# EAGLE library part M34518(32PIN) (library renesas_mcu)
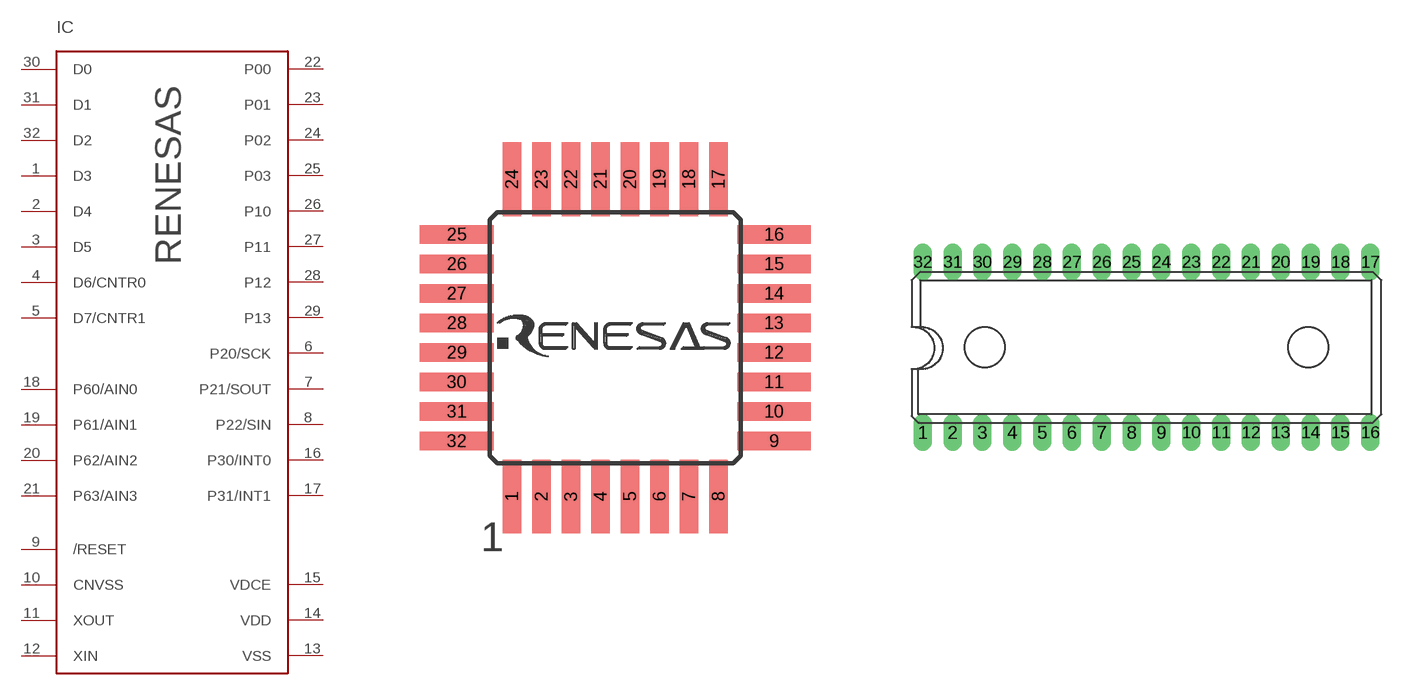
[diagram p50: symbol with the pads of 32P6U-A; footprints 32P6U-A, 32P4B]

Designator prefix IC

## M34518(32PIN)FP  [32P6U-A]
1  D3
2  D4
3  D5
4  D6/CNTR0
5  D7/CNTR1
6  P20/SCK
7  P21/SOUT
8  P22/SIN
9  /RESET
10  CNVSS
11  XOUT
12  XIN
13  VSS
14  VDD
15  VDCE
16  P30/INT0
17  P31/INT1
18  P60/AIN0
19  P61/AIN1
20  P62/AIN2
21  P63/AIN3
22  P00
23  P01
24  P02
25  P03
26  P10
27  P11
28  P12
29  P13
30  D0
31  D1
32  D2

## M34518(32PIN)SP  [32P4B]
1  D0
2  D1
3  D2
4  D3
5  D4
6  D5
7  D6/CNTR0
8  D7/CNTR1
9  P20/SCK
10  P21/SOUT
11  P22/SIN
12  /RESET
13  CNVSS
14  XOUT
15  XIN
16  VSS
17  VDD
18  VDCE
19  P30/INT0
20  P31/INT1
21  P60/AIN0
22  P61/AIN1
23  P62/AIN2
24  P63/AIN3
25  P00
26  P01
27  P02
28  P03
29  P10
30  P11
31  P12
32  P13

## Footprint 32P6U-A (pad centres in mm)
smd 0.5 x 2: 1 -2.8,-4.3; 2 -2,-4.3; 3 -1.2,-4.3; 4 -0.4,-4.3; 5 0.4,-4.3; 6 1.2,-4.3; 7 2,-4.3; 8 2.8,-4.3; 17 2.8,4.3; 18 2,4.3; 19 1.2,4.3; 20 0.4,4.3; 21 -0.4,4.3; 22 -1.2,4.3; 23 -2,4.3; 24 -2.8,4.3
smd 2 x 0.5: 9 4.3,-2.8; 10 4.3,-2; 11 4.3,-1.2; 12 4.3,-0.4; 13 4.3,0.4; 14 4.3,1.2; 15 4.3,2; 16 4.3,2.8; 25 -4.3,2.8; 26 -4.3,2; 27 -4.3,1.2; 28 -4.3,0.4; 29 -4.3,-0.4; 30 -4.3,-1.2; 31 -4.3,-2; 32 -4.3,-2.8

## Footprint 32P4B (pad centres in mm)
drill 0.61 long: 1 -13.335,-5.08; 2 -11.557,-5.08; 3 -9.779,-5.08; 4 -8.001,-5.08; 5 -6.223,-5.08; 6 -4.445,-5.08; 7 -2.667,-5.08; 8 -0.889,-5.08; 9 0.889,-5.08; 10 2.667,-5.08; 11 4.445,-5.08; 12 6.223,-5.08; 13 8.001,-5.08; 14 9.779,-5.08; 15 11.557,-5.08; 16 13.335,-5.08; 17 13.335,5.08; 18 11.557,5.08; 19 9.779,5.08; 20 8.001,5.08; 21 6.223,5.08; 22 4.445,5.08; 23 2.667,5.08; 24 0.889,5.08; 25 -0.889,5.08; 26 -2.667,5.08; 27 -4.445,5.08; 28 -6.223,5.08; 29 -8.001,5.08; 30 -9.779,5.08; 31 -11.557,5.08; 32 -13.335,5.08